# Altium footprint library CornellBajaLibrary.PcbLib: 134 footprints (part 7 of 9)
Each footprint in its own frame and in the unit in brackets; x right, y up, seen from the top. Pads: shape width x height; smd on the part's side, far side on the other; paste and mask are expansions set on the pad; w line width, h text height; cw(c..) or ccw(c..) is an arc to the next point about the centre after c.
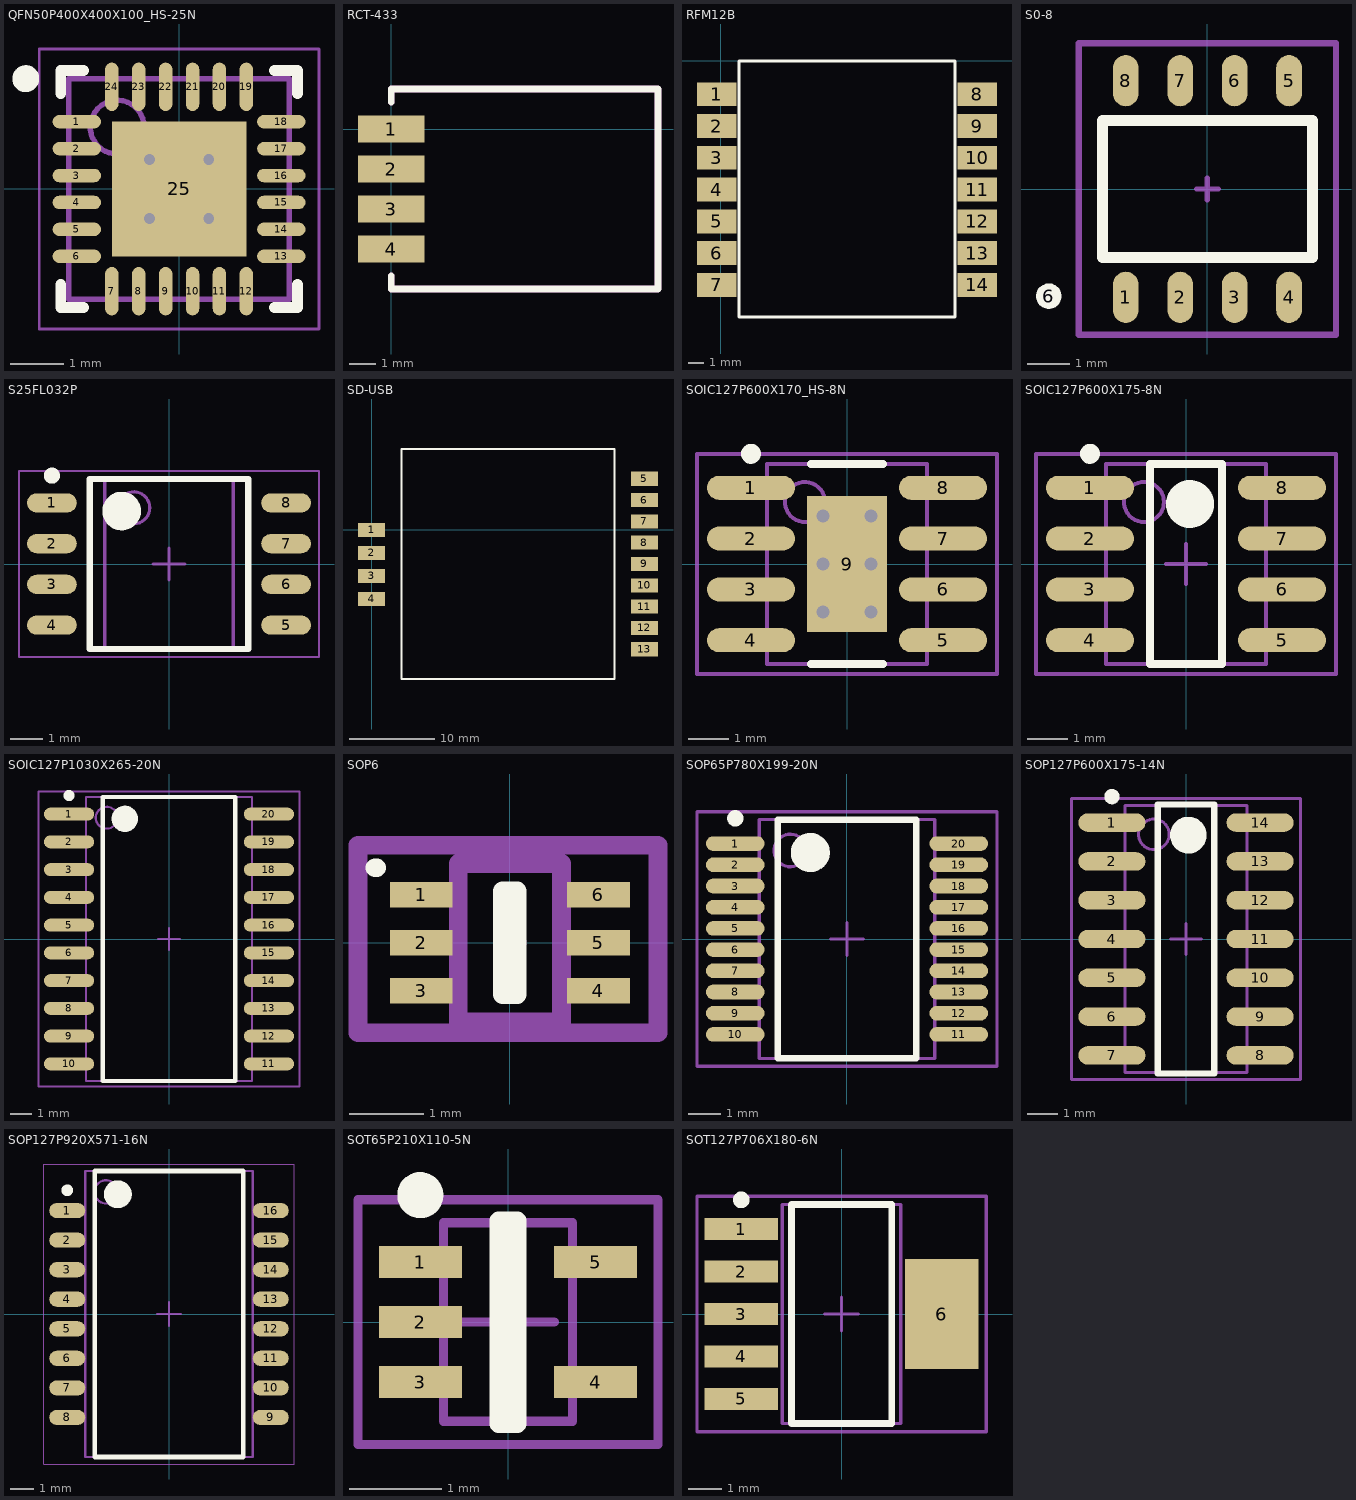
[diagram p6: the footprints below, top view; thin cyan lines are the x and y axes]

## QFN50P400X400X100_HS-25N [mm] "QFN, 24-Leads, Body 4.00x4.00mm, Pitch 0.50mm, Thermal Pad 2.50x2.50mm, IPC Medium Density"
height 1
pads (25):
  oval 0.9x0.25 smd: 1(-1.9,1.25) 2(-1.9,0.75) 3(-1.9,0.25) 4(-1.9,-0.25) 5(-1.9,-0.75) 6(-1.9,-1.25) 13(1.9,-1.25) 14(1.9,-0.75) 15(1.9,-0.25) 16(1.9,0.25) 17(1.9,0.75) 18(1.9,1.25)
  oval 0.25x0.9 smd: 7(-1.25,-1.9) 8(-0.75,-1.9) 9(-0.25,-1.9) 10(0.25,-1.9) 11(0.75,-1.9) 12(1.25,-1.9) 19(1.25,1.9) 20(0.75,1.9) 21(0.25,1.9) 22(-0.25,1.9) 23(-0.75,1.9) 24(-1.25,1.9)
  rect 2.5x2.5 smd: 25(0,0)
via 0.55,-0.55 diameter 0.5 hole 0.2
via -0.55,-0.55 diameter 0.5 hole 0.2
via 0.55,0.55 diameter 0.5 hole 0.2
via -0.55,0.55 diameter 0.5 hole 0.2
Top Overlay:
  circle w0.25: c-2.85,2.05 r0.125
  lines w0.2: -2.2,-1.775 -2.2,-2.2 -1.775,-2.2 ; -2.2,1.775 -2.2,2.2 -1.775,2.2 ; 1.775,-2.2 2.2,-2.2 2.2,-1.775 ; 1.775,2.2 2.2,2.2 2.2,1.775
Mechanical 13:
  circle w0.1: c-1.15,1.15 r0.5
  lines w0.1: -2.05,-2.05 2.05,-2.05 2.05,2.05 -2.05,2.05 -2.05,-2.05
Mechanical 15:
  lines w0.05: -2.6,-2.6 2.6,-2.6 2.6,2.6 -2.6,2.6 -2.6,-2.6
  lines w0.1: -0.5,0 0.5,0 ; 0,-0.5 0,0.5
3D body: height 1, standoff 0, extent -2.05,-2.05 2.05,2.05

## RCT-433 [mil]
pads (4):
  rect 100x40 smd: 1(0,0) 2(0,-60) 3(0,-120) 4(0,-180)
Top Overlay:
  lines w10: 0,-220 0,-240 400,-240 400,60 0,60 0,40
Keep-Out Layer:
  lines w10: 0,-220 0,-240 400,-240 400,60 0,60 0,40

## RFM12B [mm]
pads (14):
  rect 2.5x1.5 smd: 1(-0.254,-2.1) 2(-0.254,-4.1) 3(-0.254,-6.1) 4(-0.254,-8.1) 5(-0.254,-10.1) 6(-0.254,-12.1) 7(-0.254,-14.1) 8(16.129,-2.1) 9(16.129,-4.1) 10(16.129,-6.1) 11(16.129,-8.1) 12(16.129,-10.1) 13(16.129,-12.1) 14(16.129,-14.1)
Top Overlay:
  lines w0.178: 14.732,-16.129 1.143,-16.129 1.143,0 14.732,0 14.732,-16.1

## S0-8 [mm]
pads (9):
  oval 0.599x1.194 smd: 1(-1.905,-2.527) 2(-0.635,-2.527) 3(0.635,-2.527) 4(1.905,-2.527) 5(1.905,2.527) 6(0.635,2.527) 7(-0.635,2.527) 8(-1.905,2.527)
  round 0.599 on Top Overlay: 6(-3.7,-2.5)
Top Overlay:
  lines w0.25: -2.45,-1.6 -2.45,1.6 2.45,1.6 2.45,-1.6 -2.45,-1.6
Mechanical 4:
  lines w0.127: -0.254,0 0.254,0 ; 0,-0.254 0,0.254
  lines w0.15: -3,-3.4 3,-3.4 3,3.4 -3,3.4 -3,-3.4
3D body: height 1, standoff 0, extent -2.45,-1.6 2.45,1.6

## S25FL032P [mm] "SOIC, 8-Leads, Body 5.28x4.64mm, Pitch 1.27mm, IPC Medium Density"
height 2.15
pads (8):
  oval 1.55x0.6 smd: 1(-3.65,1.905) 2(-3.65,0.635) 3(-3.65,-0.635) 4(-3.65,-1.905) 5(3.65,-1.905) 6(3.65,-0.635) 7(3.65,0.635) 8(3.65,1.905)
Top Overlay:
  circle w0.25: c-3.65,2.755 r0.125
  circle w0.6: c-1.475,1.65 r0.3
  lines w0.2: -2.475,-2.65 -2.475,2.65 2.475,2.65 2.475,-2.65 -2.475,-2.65
Mechanical 13:
  circle w0.1: c-1.1,1.75 r0.5
  lines w0.1: -2,-2.65 -2,2.65 2,2.65 2,-2.65 -2,-2.65
Mechanical 15:
  lines w0.05: -4.675,-2.9 -4.675,2.9 4.675,2.9 4.675,-2.9 -4.675,-2.9
  lines w0.1: -0.5,0 0.5,0 ; 0,-0.5 0,0.5
3D body: height 2.15, standoff 0.05, extent -2,-2.65 2,2.65

## SD-USB [mm]
pads (13):
  rect 3.175x1.651 smd: 1(0,0) 2(0,-2.7) 3(0,-5.4) 4(0,-8.1) 5(32,6) 6(32,3.5) 7(32,1) 8(32,-1.5) 9(32,-4) 10(32,-6.5) 11(32,-9) 12(32,-11.5) 13(32,-14)
Top Overlay:
  lines w0.254: 3.5,-17.5 28.5,-17.5 28.5,9.5 3.5,9.5 3.5,-17.5
3D body: height 5, standoff 0.5, extent 3.5,-17.5 28.5,9.5

## SOIC127P600X170_HS-8N [mm] "SOIC, 8-Leads, Body 5.0x4.0mm (max), Pitch 1.27mm, IPC Medium Density"
height 1.7
pads (9):
  oval 2.2x0.6 smd: 1(-2.4,1.905) 2(-2.4,0.635) 3(-2.4,-0.635) 4(-2.4,-1.905) 5(2.4,-1.905) 6(2.4,-0.635) 7(2.4,0.635) 8(2.4,1.905)
  rect 2x3.4 smd: 9(0,0)
via 0.6,-1.2 diameter 0.66 hole 0.33
via -0.6,-1.2 diameter 0.66 hole 0.33
via 0.6,0 diameter 0.66 hole 0.33
via -0.6,0 diameter 0.66 hole 0.33
via 0.6,1.2 diameter 0.66 hole 0.33
via -0.6,1.2 diameter 0.66 hole 0.33
Top Overlay:
  circle w0.25: c-2.4,2.755 r0.125
  lines w0.2: -0.9,-2.5 0.9,-2.5 ; -0.9,2.5 0.9,2.5
Mechanical 13:
  circle w0.1: c-1.05,1.55 r0.5
  lines w0.1: -2,-2.5 2,-2.5 2,2.5 -2,2.5 -2,-2.5
Mechanical 15:
  lines w0.1: -0.5,0 0.5,0 ; 0,-0.5 0,0.5 ; -3.75,-2.75 3.75,-2.75 3.75,2.75 -3.75,2.75 -3.75,-2.75
3D body: height 1.7, standoff 0.25, extent -2,-2.5 2,2.5

## SOIC127P600X175-8N [mm] "SOIC, 8-Leads, Body 5.0x4.0mm (max), Pitch 1.27mm, IPC Medium Density"
height 1.75
pads (8):
  oval 2.2x0.6 smd: 1(-2.4,1.905) 2(-2.4,0.635) 3(-2.4,-0.635) 4(-2.4,-1.905) 5(2.4,-1.905) 6(2.4,-0.635) 7(2.4,0.635) 8(2.4,1.905)
Top Overlay:
  circle w0.6: c0.1,1.5 r0.3
  circle w0.25: c-2.4,2.755 r0.125
  lines w0.2: -0.9,-2.5 0.9,-2.5 0.9,2.5 -0.9,2.5 -0.9,-2.5
Mechanical 13:
  circle w0.1: c-1.05,1.55 r0.5
  lines w0.1: -2,-2.5 2,-2.5 2,2.5 -2,2.5 -2,-2.5
Mechanical 15:
  lines w0.1: -0.5,0 0.5,0 ; 0,-0.5 0,0.5 ; -3.75,-2.75 3.75,-2.75 3.75,2.75 -3.75,2.75 -3.75,-2.75
3D body: height 1.75, standoff 0.25, extent -2,-2.5 2,2.5

## SOIC127P1030X265-20N [mm] "SOIC, 20-Leads, Body 13.0x7.6mm (max), Pitch 1.27mm, IPC Medium Density"
height 2.65
pads (20):
  oval 2.3x0.6 smd: 1(-4.575,5.715) 2(-4.575,4.445) 3(-4.575,3.175) 4(-4.575,1.905) 5(-4.575,0.635) 6(-4.575,-0.635) 7(-4.575,-1.905) 8(-4.575,-3.175) 9(-4.575,-4.445) 10(-4.575,-5.715) 11(4.575,-5.715) 12(4.575,-4.445) 13(4.575,-3.175) 14(4.575,-1.905) 15(4.575,-0.635) 16(4.575,0.635) 17(4.575,1.905) 18(4.575,3.175) 19(4.575,4.445) 20(4.575,5.715)
Top Overlay:
  circle w0.25: c-4.575,6.565 r0.125
  circle w0.6: c-2.025,5.5 r0.3
  lines w0.2: -3.025,-6.5 -3.025,6.5 3.025,6.5 3.025,-6.5 -3.025,-6.5
Mechanical 13:
  circle w0.1: c-2.85,5.55 r0.5
  lines w0.1: -3.8,-6.5 -3.8,6.5 3.8,6.5 3.8,-6.5 -3.8,-6.5
Mechanical 15:
  lines w0.1: -0.5,0 0.5,0 ; 0,-0.5 0,0.5 ; -5.975,-6.75 -5.975,6.75 5.975,6.75 5.975,-6.75 -5.975,-6.75
3D body: height 2.65, standoff 0.3, extent -3.8,-6.5 3.8,6.5

## SOP6 [mm]
height 1
pads (6):
  rect 0.85x0.35 smd: 1(-1.2,0.65) 2(-1.2,0) 3(-1.2,-0.65) 4(1.2,-0.65) 5(1.2,0) 6(1.2,0.65)
Top Overlay:
  lines w0.254: -1.829,1.016 -1.803,1.016 ; 0.1,-0.6 0.1,0.6 ; -0.1,-0.7 -0.1,0.7 0.1,0.7 0.1,-0.7 -0.1,-0.7
Mechanical 13:
  lines w0.254: -0.7,-1.075 -0.7,1.075 0.7,1.075 0.7,-1.075 -0.7,-1.075
Mechanical 15:
  lines w0.254: -0.1,0 0.1,0 ; 0,-0.1 0,0.1 ; -2.057,-1.219 -1.981,-1.219 2.007,-1.219 2.007,1.321 -2.057,1.321 -2.057,-1.219
3D body: height 1, standoff 0.1, extent -0.699,-1.074 0.699,1.074

## SOP16 [mm]

## SOP65P780X199-20N [mm] "SOP, 20-Leads, Body 7.3x5.4mm (max), Pitch 0.65mm, IPC Medium Density"
height 1.99
pads (20):
  oval 1.8x0.45 smd: 1(-3.425,2.925) 2(-3.425,2.275) 3(-3.425,1.625) 4(-3.425,0.975) 5(-3.425,0.325) 6(-3.425,-0.325) 7(-3.425,-0.975) 8(-3.425,-1.625) 9(-3.425,-2.275) 10(-3.425,-2.925) 11(3.425,-2.925) 12(3.425,-2.275) 13(3.425,-1.625) 14(3.425,-0.975) 15(3.425,-0.325) 16(3.425,0.325) 17(3.425,0.975) 18(3.425,1.625) 19(3.425,2.275) 20(3.425,2.925)
Top Overlay:
  circle w0.25: c-3.425,3.7 r0.125
  circle w0.6: c-1.125,2.65 r0.3
  lines w0.2: -2.125,-3.65 -2.125,3.65 2.125,3.65 2.125,-3.65 -2.125,-3.65
Mechanical 13:
  circle w0.1: c-1.74,2.715 r0.5
  lines w0.1: -2.69,-3.665 -2.69,3.665 2.69,3.665 2.69,-3.665 -2.69,-3.665
Mechanical 15:
  lines w0.1: -0.5,0 0.5,0 ; 0,-0.5 0,0.5 ; -4.6,-3.9 -4.6,3.9 4.6,3.9 4.6,-3.9 -4.6,-3.9
3D body: height 1.99, standoff 0.05, extent -2.69,-3.665 2.69,3.665

## SOP127P600X175-14N [mm] "SOP, 14-Leads, Body 8.8x4.0mm (max), Pitch 1.27mm, IPC Medium Density"
height 1.75
pads (14):
  oval 2.2x0.6 smd: 1(-2.425,3.81) 2(-2.425,2.54) 3(-2.425,1.27) 4(-2.425,0) 5(-2.425,-1.27) 6(-2.425,-2.54) 7(-2.425,-3.81) 8(2.425,-3.81) 9(2.425,-2.54) 10(2.425,-1.27) 11(2.425,0) 12(2.425,1.27) 13(2.425,2.54) 14(2.425,3.81)
Top Overlay:
  circle w0.6: c0.075,3.4 r0.3
  circle w0.25: c-2.425,4.66 r0.125
  lines w0.2: -0.925,-4.4 0.925,-4.4 0.925,4.4 -0.925,4.4 -0.925,-4.4
Mechanical 13:
  circle w0.1: c-1.05,3.425 r0.5
  lines w0.1: -2,-4.375 2,-4.375 2,4.375 -2,4.375 -2,-4.375
Mechanical 15:
  lines w0.1: -0.5,0 0.5,0 ; 0,-0.5 0,0.5 ; -3.75,-4.6 3.75,-4.6 3.75,4.6 -3.75,4.6 -3.75,-4.6
3D body: height 1.75, standoff 0.1, extent -2,-4.375 2,4.375

## SOP127P920X571-16N [mm] "SOP, 16-Leads, Body 12.32x7.24mm, Pitch 1.27mm, IPC Medium Density"
height 5.71
pads (16):
  oval 1.55x0.65 smd: 1(-4.375,4.445) 2(-4.375,3.175) 3(-4.375,1.905) 4(-4.375,0.635) 5(-4.375,-0.635) 6(-4.375,-1.905) 7(-4.375,-3.175) 8(-4.375,-4.445) 9(4.375,-4.445) 10(4.375,-3.175) 11(4.375,-1.905) 12(4.375,-0.635) 13(4.375,0.635) 14(4.375,1.905) 15(4.375,3.175) 16(4.375,4.445)
Top Overlay:
  circle w0.6: c-2.2,5.15 r0.3
  circle w0.25: c-4.375,5.32 r0.125
  lines w0.2: -3.2,-6.15 3.2,-6.15 3.2,6.15 -3.2,6.15 -3.2,-6.15
Mechanical 13:
  circle w0.1: c-2.7,5.25 r0.5
  lines w0.1: -3.6,-6.15 3.6,-6.15 3.6,6.15 -3.6,6.15 -3.6,-6.15
Mechanical 15:
  lines w0.05: -5.375,-6.45 5.375,-6.45 5.375,6.45 -5.375,6.45 -5.375,-6.45
  lines w0.1: -0.5,0 0.5,0 ; 0,-0.5 0,0.5
3D body: height 5.71, standoff 0.08, extent -3.6,-6.15 3.6,6.15

## SOT65P210X110-5N [mm] "SOT23, 5-Leads, Body 2.2x2.4mm (max), Pitch 0.65mm, IPC Medium Density"
height 1.1
pads (5):
  rect 0.9x0.35 smd: 1(-0.95,0.65) 2(-0.95,0) 3(-0.95,-0.65) 4(0.95,-0.65) 5(0.95,0.65)
Top Overlay:
  circle w0.25: c-0.95,1.375 r0.125
  lines w0.2: -0.1,-1.1 0.1,-1.1 0.1,1.1 -0.1,1.1 -0.1,-1.1
Mechanical 13:
  lines w0.1: -0.7,-1.075 -0.7,1.075 0.7,1.075 0.7,-1.075 -0.7,-1.075
Mechanical 15:
  lines w0.1: -0.5,0 0.5,0 ; 0,-0.5 0,0.5 ; -1.625,-1.325 -1.625,1.325 1.625,1.325 1.625,-1.325 -1.625,-1.325
3D body: height 1.1, standoff 0, extent -0.7,-1.075 0.7,1.075

## SOT127P706X180-6N [mm] "SOT223, 6-Leads, Body 6.6x7.3mm (max), Pitch 1.27mm, IPC Medium Density"
height 1.8
pads (6):
  rect 2.2x0.65 smd: 1(-3,2.54) 2(-3,1.27) 3(-3,0) 4(-3,-1.27) 5(-3,-2.54)
  rect 2.2x3.3 smd: 6(3,0)
Top Overlay:
  circle w0.25: c-3,3.415 r0.125
  lines w0.2: -1.5,-3.275 1.5,-3.275 1.5,3.275 -1.5,3.275 -1.5,-3.275
Mechanical 13:
  lines w0.1: -1.775,-3.275 1.775,-3.275 1.775,3.275 -1.775,3.275 -1.775,-3.275
Mechanical 15:
  lines w0.1: -0.5,0 0.5,0 ; 0,-0.5 0,0.5 ; -4.325,-3.525 4.325,-3.525 4.325,3.525 -4.325,3.525 -4.325,-3.525
3D body: height 1.8, standoff 0.08, extent -1.775,-3.275 1.775,3.275